# Altium schematic symbol library SCH - RF - AMPLIFIER - ANALOG DEVICES HMC635ALP5E.SCHLIB: 1 symbol
Pins are listed as number, name and electrical type; pins without a type are passive.

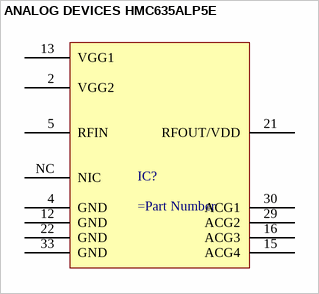
[diagram p0: symbol ANALOG DEVICES HMC635ALP5E]

## ANALOG DEVICES HMC635ALP5E
designator IC?
pins: 2 VGG2, 4 GND, 5 RFIN, 12 GND, 13 VGG1, 15 ACG4, 16 ACG3, 21 RFOUT/VDD, 22 GND, 29 ACG2, 30 ACG1, 33 GND, NC NIC